# Altium schematic symbol library SCH - RELAY - DPDT - TE 3-1462039-8.SCHLIB: 1 symbol
Pins are listed as number, name and electrical type; pins without a type are passive.

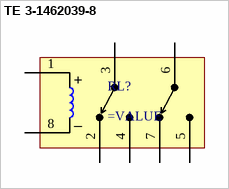
[diagram p0: symbol TE 3-1462039-8]

## TE 3-1462039-8
designator RL?
pins: 1, 2, 3, 4, 5, 6, 7, 8
1 alternate drawing of the same symbol
text: +; –